# EAGLE library part 691411710006 (library Wuerth_Elektronik_eiCan_Terminal_Blocks_v2.0)
WR-TBL Serie 411 - 5.0mm Screwless Horizontal Entry - 2 mm2 Wires, 6 Pins
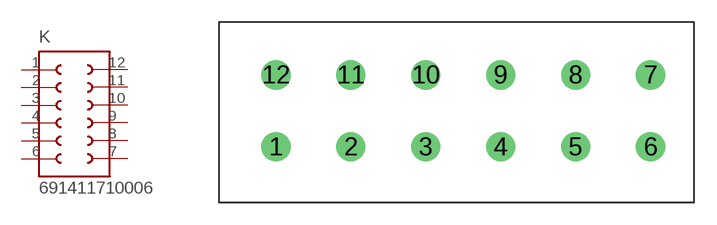
[diagram p305: symbol with the pads of 691411710006; footprint 691411710006]

Designator prefix K

## 691411710006  [691411710006]
1  1  pas
2  2  pas
3  3  pas
4  4  pas
5  5  pas
6  6  pas
7  7  pas
8  8  pas
9  9  pas
10  10  pas
11  11  pas
12  12  pas

## Footprint 691411710006 (pad centres in mm)
WR-TBL Serie 411 - 5.0mm Screwless Horizontal Entry - 2 mm2 Wires, 6 Pins
drill 1.3 round: 1 -5,0; 2 0,0; 3 5,0; 4 10,0; 5 15,0; 6 20,0; 7 20,4.8; 8 15,4.8; 9 10,4.8; 10 5,4.8; 11 0,4.8; 12 -5,4.8